# Altium footprint library XTAL1170X500X450.PcbLib: 1 footprints
Each footprint in its own frame and in the unit in brackets; x right, y up, seen from the top. Pads: shape width x height; smd on the part's side, far side on the other; paste and mask are expansions set on the pad; w line width, h text height; cw(c..) or ccw(c..) is an arc to the next point about the centre after c.
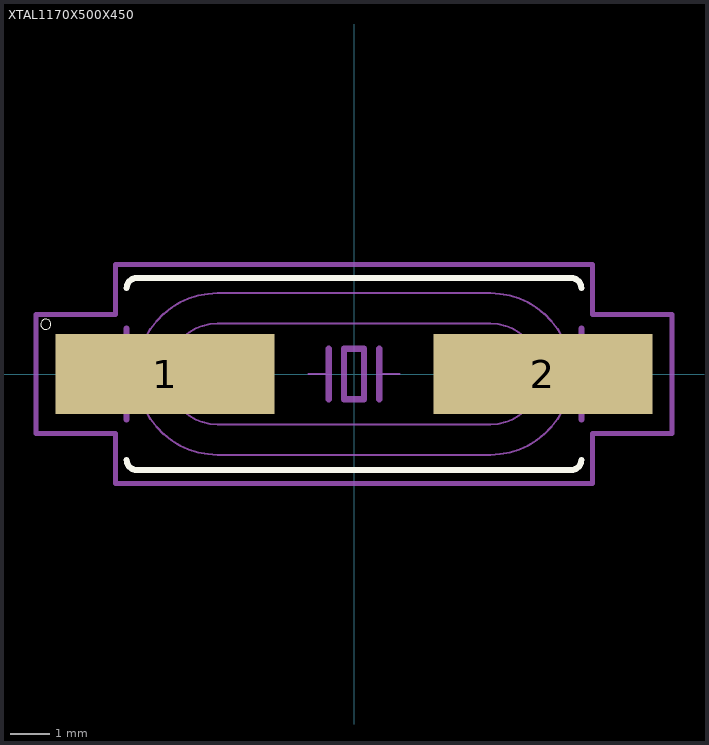
[diagram p0: the footprint, top view; thin cyan lines are the x and y axes]

## XTAL1170X500X450 [mm]
pads (2):
  rect 5.5x2 smd: 1(-4.75,0) 2(4.75,0)
Top Overlay:
  circle w0: c-7.75,1.25 r0.127
  lines w0.152: -5.715,-2.159 ccw(c-5.461,-2.159) -5.461,-2.413 5.461,-2.413 ccw(c5.461,-2.159) 5.715,-2.159 ; -5.715,2.159 cw(c-5.461,2.159) -5.461,2.413 5.461,2.413 cw(c5.461,2.159) 5.715,2.159
Assembly Top:
  lines w0.051: -1.143,0 -0.635,0 ; 0.635,0 1.143,0 ; -5.114,-1.136 ccw(c-3.429,0) -3.429,-2.032 3.429,-2.032 ccw(c3.429,0) 5.113,-1.136 ccw(c3.429,0) 5.114,1.136 ccw(c3.429,0) 3.429,2.032 -3.429,2.032 ccw(c-3.429,0) -5.114,1.136 ccw(c-3.429,0) -5.114,-1.136 ; -3.986,-1.141 ccw(c-3.429,0) -3.429,-1.27 3.429,-1.27 ccw(c3.429,0) 3.986,-1.141 ccw(c3.429,0) 3.986,1.141 ccw(c3.429,0) 3.429,1.27 -3.429,1.27 ccw(c-3.429,0) -3.986,1.141 ccw(c-3.429,0) -3.986,-1.141
  lines w0.152: -5.715,-1.143 -5.715,1.143 ; -5.715,-0.381 -6.477,-0.381 -6.477,0.381 -5.715,0.381 ; -0.635,-0.635 -0.635,0 -0.635,0.635 ; 0.635,-0.635 0.635,0 0.635,0.635 ; 5.715,-1.143 5.715,-0.381 ; 5.715,1.143 5.715,0.381 ; 5.715,-0.381 5.715,0.381 ; 5.715,-0.381 6.477,-0.381 6.477,0.381 5.715,0.381 ; -0.254,-0.635 -0.254,0.635 0.254,0.635 0.254,-0.635 -0.254,-0.635
Courtyard Top:
  lines w0.127: -8,-1.5 -8,1.5 -6,1.5 -6,2.75 6,2.75 6,1.5 8,1.5 8,-1.5 6,-1.5 6,-2.75 -6,-2.75 -6,-1.5 -8,-1.5
3D body "step_temp.STEP": height 4.5, standoff 0, extent -6.75,-2.5 6.75,2.5